# EAGLE library part SW-DIP03 (library Custom)
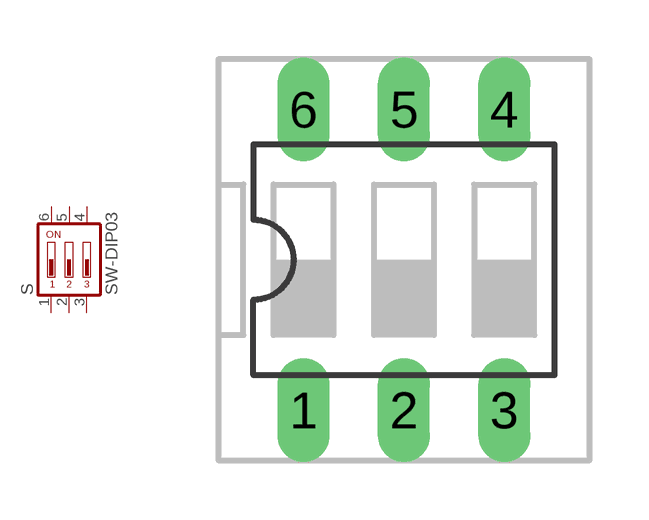
[diagram p18: symbol with the pads of SW-DIP3; footprint SW-DIP3]

Designator prefix S

## SW-DIP03  [SW-DIP3]
1  1  pas
2  2  pas
3  3  pas
4  4  pas
5  5  pas
6  6  pas

## Footprint SW-DIP3 (pad centres in mm)
drill 0.813 long: 1 -2.54,-3.81; 2 0,-3.81; 3 2.54,-3.81; 4 2.54,3.81; 5 0,3.81; 6 -2.54,3.81